# Altium schematic symbol library DF13-4P-1.25DSA.Schlib: 1 symbol
Pins are listed as number, name and electrical type; pins without a type are passive.

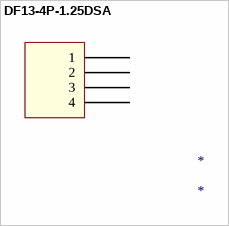
[diagram p0: symbol DF13-4P-1.25DSA]

## DF13-4P-1.25DSA
designator *
CONN SM DF13 4-POS SKT
pins: 1, 2, 3, 4